# Altium footprint library LGA_package.PcbLib: 4 footprints
Each footprint in its own frame and in the unit in brackets; x right, y up, seen from the top. Pads: shape width x height; smd on the part's side, far side on the other; paste and mask are expansions set on the pad; w line width, h text height; cw(c..) or ccw(c..) is an arc to the next point about the centre after c.
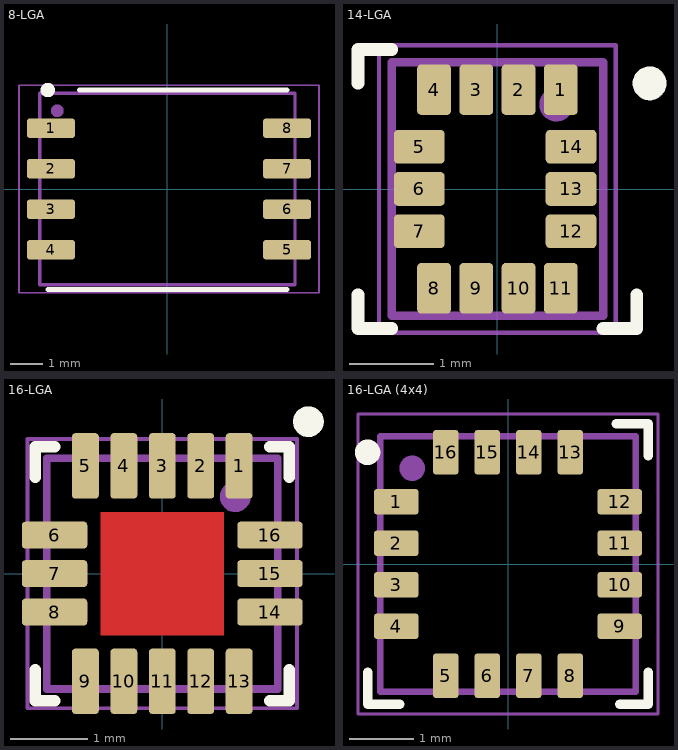
[diagram p0: the footprints below, top view; thin cyan lines are the x and y axes]

## 8-LGA [mm]
height 0.9
pads (8):
  rrect25% 1.5x0.6 smd: 1(-3.65,1.905) 2(-3.65,0.635) 3(-3.65,-0.635) 4(-3.65,-1.905) 5(3.75,-1.905) 6(3.75,-0.635) 7(3.75,0.635) 8(3.75,1.905)
Top Overlay:
  circle w0.25: c-3.75,3.1 r0.1
  lines w0.15: -3.75,-3.15 3.75,-3.15 ; -2.75,3.1 3.75,3.1
Top Assembly:
  circle w0.2: c-3.45,2.45 r0.1
  lines w0.1: -4,-3 -4,3 4,3 4,-3 -4,-3
  text ".Designator" at -4.998,-0.333 h1
Top Courtyard (Mech15):
  lines w0.05: -4.65,-3.25 4.75,-3.25 4.75,3.25 -4.65,3.25 -4.65,-3.25
3D body: height 0.8, standoff 0, extent -4,-3 4,3

## 14-LGA [mm] "PSON, 14-Leads, Body 3,00x2,50mm, Pitch 0,50mm, IPC Medium Density"
height 1
pads (14):
  rrect25% 0.4x0.6 smd: 1(0.75,1.175) 2(0.25,1.175) 3(-0.25,1.175) 4(-0.75,1.175) 8(-0.75,-1.175) 9(-0.25,-1.175) 10(0.25,-1.175) 11(0.75,-1.175)
  rrect25% 0.6x0.4 smd: 5(-0.925,0.5) 6(-0.925,0) 7(-0.925,-0.5) 12(0.871,-0.5) 13(0.871,0) 14(0.871,0.5)
Top Overlay:
  circle w0.2: c1.8,1.25 r0.1
  lines w0.15: -1.65,-1.25 -1.65,-1.65 -1.25,-1.65 ; -1.65,1.25 -1.65,1.65 -1.25,1.65 ; 1.25,-1.65 1.65,-1.65 1.65,-1.25
Top Assembly:
  circle w0.2: c0.696,1 r0.1
  lines w0.1: -1.25,-1.5 1.25,-1.5 1.25,0.774 1.25,1.5 -1.25,1.5 -1.25,-1.5
  text ".Designator" at -4.998,-0.333 h1
Top Courtyard (Mech15):
  lines w0.05: -1.4,-1.7 -1.4,1.7 1.4,1.7 1.4,-1.7 -1.4,-1.7
3D body "LGA14.STEP": height 0.96, standoff 0.08, extent -1.25,-1.5 1.25,1.5

## 16-LGA [mm] "PSON, 16-Leads, Body 3,00x3,00mm, Pitch 0,50mm, IPC Medium Density"
height 1
pads (16):
  rrect25% 0.35x0.85 smd: 1(1,1.4) 2(0.5,1.4) 3(0,1.4) 4(-0.5,1.4) 5(-1,1.4) 9(-1,-1.4) 10(-0.5,-1.4) 11(0,-1.4) 12(0.5,-1.4) 13(1,-1.4)
  rrect25% 0.85x0.35 smd: 6(-1.4,0.5) 7(-1.4,0) 8(-1.4,-0.5) 14(1.4,-0.5) 15(1.4,0) 16(1.4,0.5)
Top Layer:
  pour cut-out: -0.8,0.8 -0.8,-0.8 0.8,-0.8 0.8,0.8
Top Overlay:
  circle w0.2: c1.9,1.975 r0.1
  lines w0.15: -1.65,-1.25 -1.65,-1.65 -1.4,-1.65 ; -1.65,1.25 -1.65,1.65 -1.4,1.65 ; 1.4,-1.65 1.65,-1.65 1.65,-1.25 ; 1.4,1.65 1.65,1.65 1.65,1.25
Top Assembly:
  circle w0.2: c0.95,1 r0.1
  lines w0.1: -1.5,-1.5 1.5,-1.5 1.5,1.5 -1.5,1.5 -1.5,-1.5
  text ".Designator" at -4.998,-0.333 h1
Top Courtyard (Mech15):
  lines w0.05: -1.75,-1.75 -1.75,1.75 1.75,1.75 1.75,-1.75 -1.75,-1.75
3D body "User Library-LIS331AL.STEP": height 1.01, standoff -0.01, extent -1.5,-1.5 1.5,1.5

## 16-LGA (4x4) [mm] "PSON, 10-Leads, Body 3,00x3,00mm, Pitch 0,50mm, IPC Medium Density"
height 1
pads (16):
  rrect25% 0.7x0.4 smd: 1(-1.75,0.975) 2(-1.75,0.325) 3(-1.75,-0.325) 4(-1.75,-0.975) 9(1.75,-0.975) 10(1.75,-0.325) 11(1.75,0.325) 12(1.75,0.975)
  rrect25% 0.4x0.7 smd: 5(-0.975,-1.75) 6(-0.325,-1.75) 7(0.325,-1.75) 8(0.975,-1.75) 13(0.975,1.75) 14(0.325,1.75) 15(-0.325,1.75) 16(-0.975,1.75)
Top Overlay:
  circle w0.2: c-2.2,1.75 r0.1
  lines w0.15: -2.2,-1.7 -2.2,-2.2 -1.7,-2.2 ; 1.7,2.2 2.2,2.2 2.2,1.7 ; 1.75,-2.2 2.2,-2.2 2.2,-1.7
Top Assembly:
  circle w0.2: c-1.5,1.5 r0.1
  lines w0.1: -2,-2 2,-2 2,2 -2,2 -2,-2
  text ".Designator" at -4.998,-0.333 h1
Top Courtyard (Mech15):
  lines w0.05: -2.35,-2.35 2.35,-2.35 2.35,2.35 -2.35,2.35 -2.35,-2.35
3D body "User Library-LGA-16.step": height 0.98, standoff 0, extent -2,-2 2,2